# EAGLE library part SI7020-A20-TEMP-HUM (library Sensors)
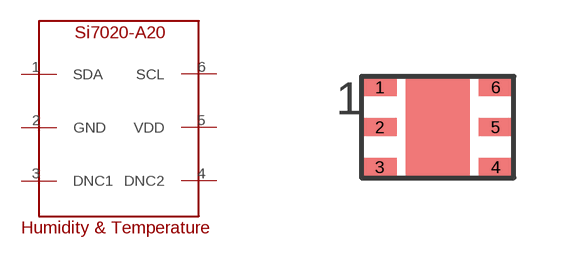
[diagram p2: symbol with the pads of DFN-3X3MM; footprint DFN-3X3MM]

Designator prefix -

## SI7020-A20-TEMP-HUM  [DFN-3X3MM]
1  SDA
2  GND
3  DNC1
4  DNC2
5  VDD
6  SCL

## Footprint DFN-3X3MM (pad centres in mm)
smd 0.85 x 0.45: 1 -1.45,1; 2 -1.45,0; 3 -1.45,-1; 4 1.45,-1; 5 1.45,0; 6 1.45,1